# EAGLE library part FUSB302MPX (library edrtech_lib)
USB-C Controller w/PD 2.0 WQFN-14 Source: Datasheet <https://datasheet.datasheetarchive.com/originals/distributors/DKDS-30/584874.pdf>
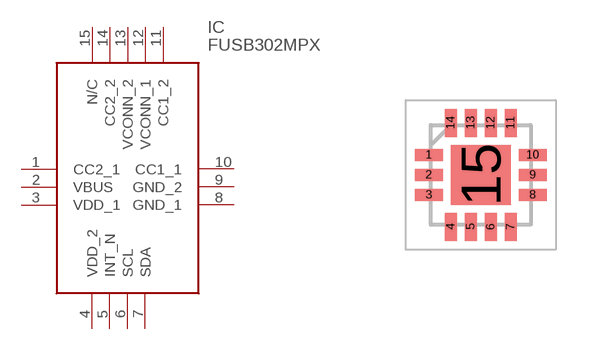
[diagram p60: symbol with the pads of QFN50P250X250X80-15N; footprint QFN50P250X250X80-15N]

Designator prefix IC

## FUSB302MPX (ARROW_PART_NUMBER: FUSB302MPX; ARROW_PRICE-STOCK: https://www.arrow.com/en/products/fusb302mpx/on-semiconductor?region=nac; DESCRIPTION: USB-C Controller w/PD 2.0 WQFN-14; HEIGHT: 0.8mm; MANUFACTURER_NAME: onsemi; MANUFACTURER_PART_NUMBER: FUSB302MPX)  [QFN50P250X250X80-15N]
1  CC2_1
2  VBUS
3  VDD_1
4  VDD_2
5  INT_N
6  SCL
7  SDA
8  GND_1
9  GND_2
10  CC1_1
11  CC1_2
12  VCONN_1
13  VCONN_2
14  CC2_2
15  N/C  nc

## Footprint QFN50P250X250X80-15N (pad centres in mm)
WQFN14 2.5x2.5, 0.5P CASE 510BR ISSUE O
smd 0.7 x 0.3: 1 -1.3,0.5; 2 -1.3,0; 3 -1.3,-0.5; 8 1.3,-0.5; 9 1.3,0; 10 1.3,0.5
smd 0.3 x 0.7: 4 -0.75,-1.3; 5 -0.25,-1.3; 6 0.25,-1.3; 7 0.75,-1.3; 11 0.75,1.3; 12 0.25,1.3; 13 -0.25,1.3; 14 -0.75,1.3
smd 1.5 x 1.5: 15 0,0